# Altium schematic symbol library Header.SchLib: 1 symbol
Pins are listed as number, name and electrical type; pins without a type are passive.

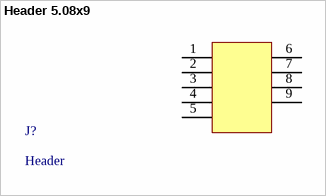
[diagram p0: symbol Header 5.08x9]

## Header 5.08x9
designator J?, comment Header
Cam
footprint PCBComponent_1
pins: 1, 2 9, 3 9, 4 9, 5 9, 6 9, 7 9, 8 9, 9